# EAGLE library part LT1676 (library linear-technology)
Step-Down Switching Regulator
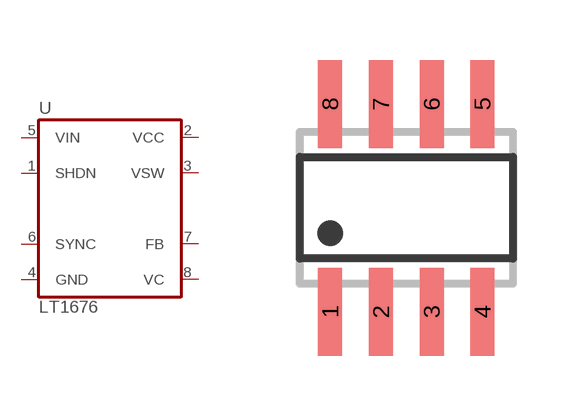
[diagram p24: symbol with the pads of SO08; footprint SO08]

Designator prefix U

## LT1676  [SO08]
1  SHDN  in
2  VCC  in
3  VSW  in
4  GND  pwr
5  VIN  pwr
6  SYNC  in
7  FB  in
8  VC  in

## Footprint SO08 (pad centres in mm)
SMALL OUTLINE INTEGRATED CIRCUIT body 3.9 mm/JEDEC MS-012AA
smd 0.6 x 2.2: 1 -1.905,-2.6; 2 -0.635,-2.6; 3 0.635,-2.6; 4 1.905,-2.6; 5 1.905,2.6; 6 0.635,2.6; 7 -0.635,2.6; 8 -1.905,2.6